# Altium footprint library 3568.PcbLib: 1 footprints
Each footprint in its own frame and in the unit in brackets; x right, y up, seen from the top. Pads: shape width x height; smd on the part's side, far side on the other; paste and mask are expansions set on the pad; w line width, h text height; cw(c..) or ccw(c..) is an arc to the next point about the centre after c.
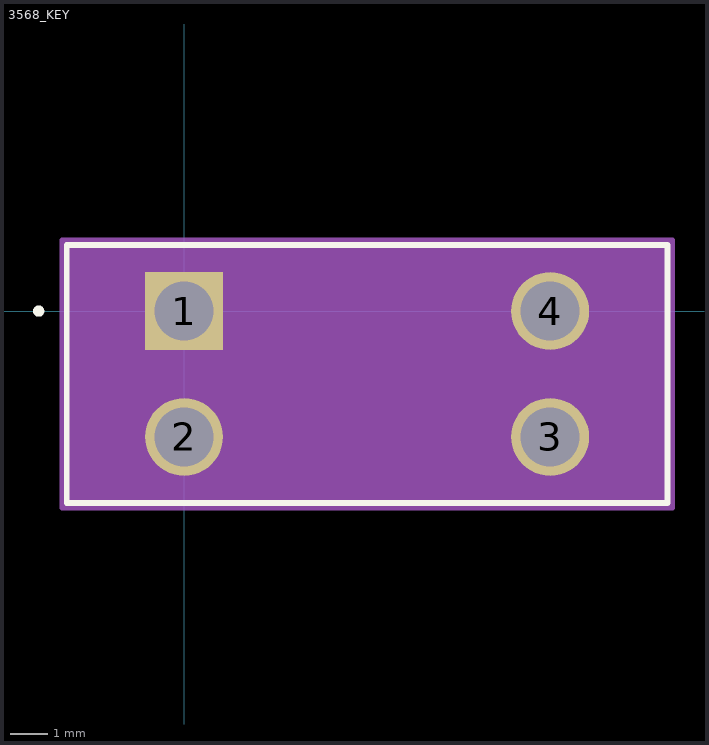
[diagram p0: the footprint, top view; thin cyan lines are the x and y axes]

## 3568_KEY [mil]
pads (4):
  rect 83x83 hole 63 paste-41.5 mask+0: 1(0,0)
  round 83 hole 63 paste-41.5 mask+0: 2(0,-134) 3(390,-134) 4(390,0)
Top Overlay:
  circle w6: c-155,0 r3
  lines w6: -125,-204.5 515,-204.5 515,70.5 -125,70.5 -125,-204.5
  text ".Designator" at 57.5,-92 h50
Mechanical 13:
  circle w1: c-61.5,0 r3
  lines w1: -120,-199.5 510,-199.5 510,65.5 -120,65.5 -120,-199.5
  text ".Designator" at 57.5,-92 h50
Mechanical 15:
  region: 520,-209.5 -130,-209.5 -130,75.5 520,75.5
  lines w6: -130,-209.5 -130,75.5 520,75.5 520,-209.5 -130,-209.5